# EAGLE library part AD9752 (library QuantumOptics)
AD9752, Analog Device, 12-bit DAC, 145MHz, parallel. http://www.analog.com/UploadedFiles/Data_Sheets/70523322AD9752_0.pdf
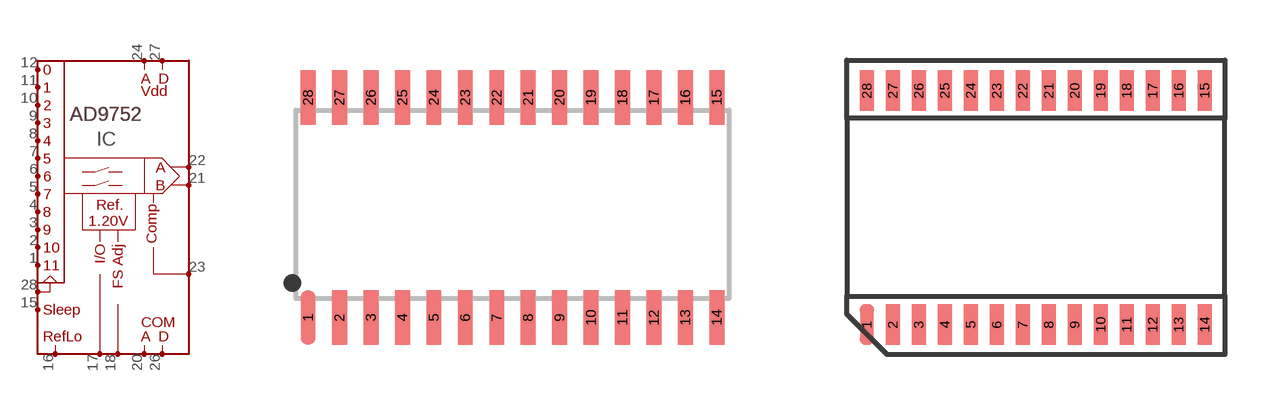
[diagram p52: symbol with the pads of SOIC28; footprints SOIC28, TSSOP-28]

Designator prefix IC

## AD9752AR  [SOIC28]
1  11  in
2  10  in
3  9  in
4  8  in
5  7  in
6  6  in
7  5  in
8  4  in
9  3  in
10  2  in
11  1  in
12  0  in
15  SLEEP  in
16  REFLO  in
17  REF
18  FSADJ
20  ACOM
21  IOUTB  out
22  IOUTA  out
23  COMP
24  AVDD
26  DCOM
27  DVDD
28  CLK  in

## AD9752ARU  [TSSOP-28]
Pads as for SOIC28

## Footprint SOIC28 (pad centres in mm)
SOIC-28, 0.05" pad spacing with 10mm (0.394") wide case.
smd 0.6 x 2.2: 1 -7.62,-3.81; 2 -6.35,-3.81; 3 -5.08,-3.81; 4 -3.81,-3.81; 5 -2.54,-3.81; 6 -1.27,-3.81; 7 0,-3.81; 8 1.27,-3.81; 9 2.54,-3.81; 10 3.81,-3.81; 11 5.08,-3.81; 12 6.35,-3.81; 13 7.62,-3.81; 14 8.89,-3.81; 15 8.89,5.08; 16 7.62,5.08; 17 6.35,5.08; 18 5.08,5.08; 19 3.81,5.08; 20 2.54,5.08; 21 1.27,5.08; 22 0,5.08; 23 -1.27,5.08; 24 -2.54,5.08; 25 -3.81,5.08; 26 -5.08,5.08; 27 -6.35,5.08; 28 -7.62,5.08

## Footprint TSSOP-28 (pad centres in mm)
TSSOP-28, pins 0.65mm c-c spacing, nominal 6.4mm rows.
smd 0.356 x 1.016: 1 0,-5.85; 2 0.65,-5.85; 3 1.3,-5.85; 4 1.95,-5.85; 5 2.6,-5.85; 6 3.25,-5.85; 7 3.9,-5.85; 8 4.55,-5.85; 9 5.2,-5.85; 10 5.85,-5.85; 11 6.5,-5.85; 12 7.15,-5.85; 13 7.8,-5.85; 14 8.45,-5.85; 15 8.45,0; 16 7.8,0; 17 7.15,0; 18 6.5,0; 19 5.85,0; 20 5.2,0; 21 4.55,0; 22 3.9,0; 23 3.25,0; 24 2.6,0; 25 1.95,0; 26 1.3,0; 27 0.65,0; 28 0,0